# Altium integrated library IntegratedCircuits.IntLib: 9 symbols
Pins are listed as number, name and electrical type; pins without a type are passive.

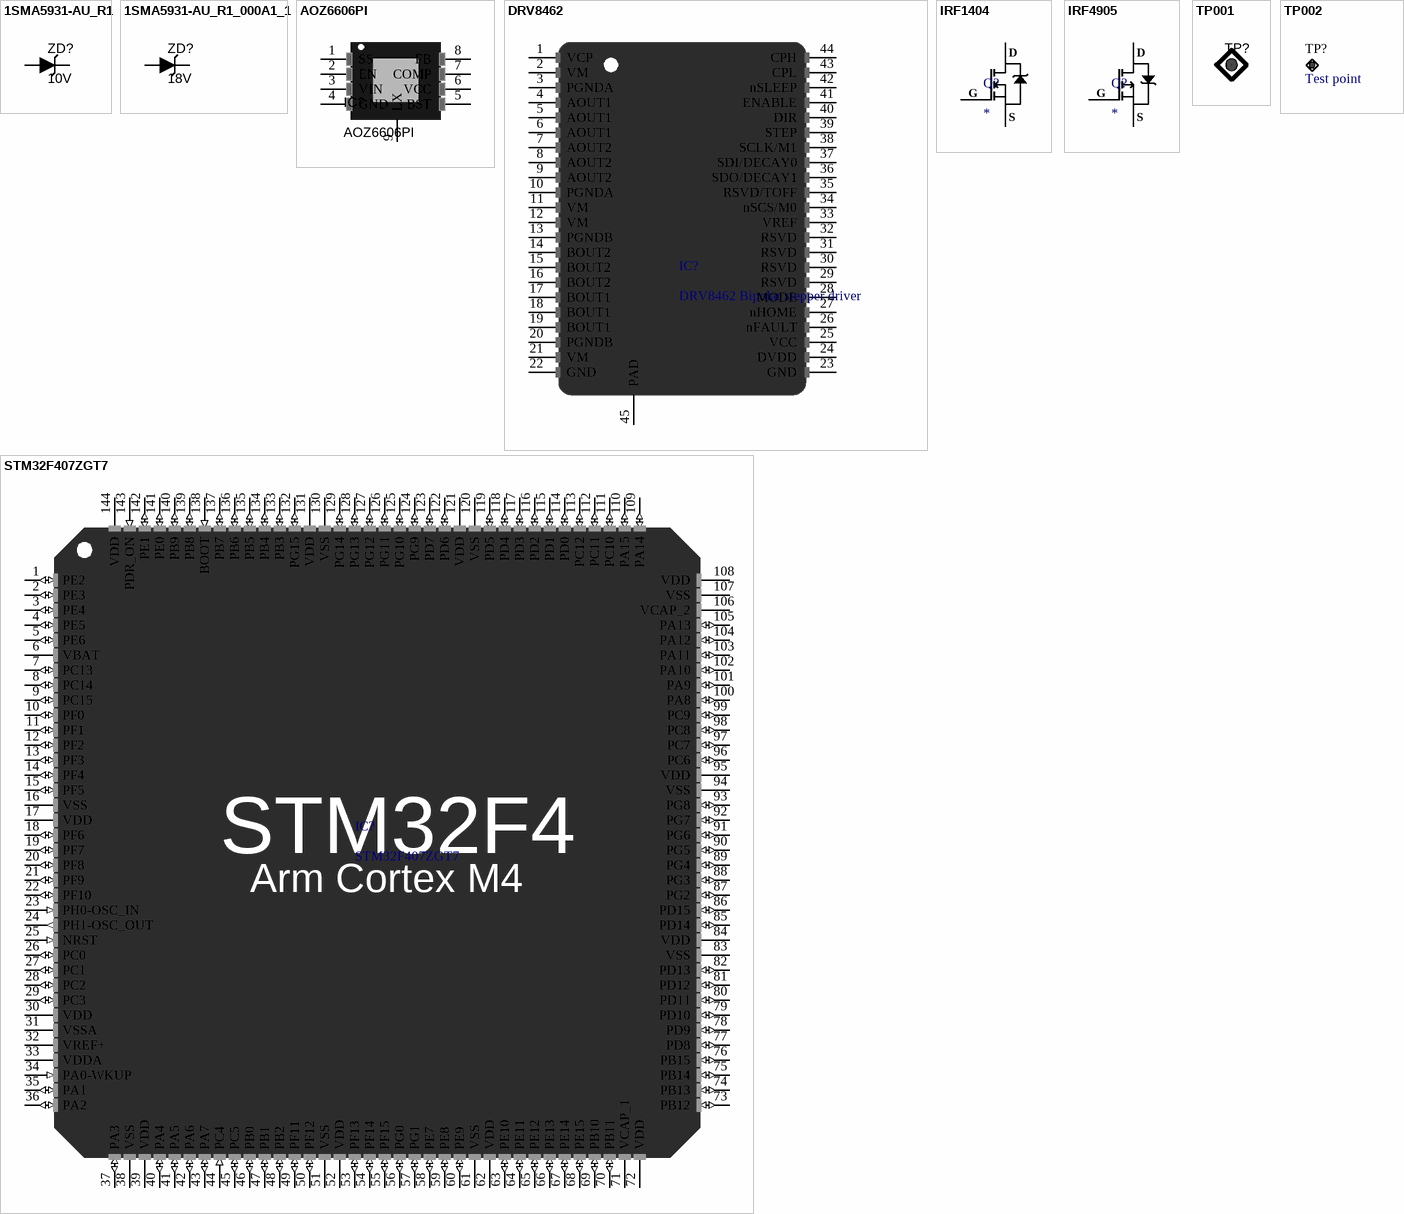
[diagram p0: symbols 1SMA5931-AU_R1 to TP002]

## 1SMA5931-AU_R1
designator ZD?, comment 10V
Zener Diode 10 V 5 W ±5% Surface Mount SMC (DO-214AB); Value: 10V; ComponentLink1Description: digikey; ComponentLink1URL: https://www.digikey.com/en/products/detail/panjit-international-inc/1SMC5347-AU-R1-000A1/15799564
footprint DIO_SMA (Molded Diode, 2-Leads, Body 4.30x2.70mm, IPC Medium Density)
pins: 1 Cathode, 2 Anode

## 1SMA5931-AU_R1_000A1_1
designator ZD?, comment 18V
Zener Diode 18 V 1.5 W ±5% Surface Mount SMA (DO-214AC); Value: 18V; ComponentLink1Description: digikey; ComponentLink1URL: https://www.digikey.com/en/products/detail/panjit-international-inc/1SMA5931-AU-R1-000A1/15799815
footprint DIO_SMA (Molded Diode, 2-Leads, Body 4.30x2.70mm, IPC Medium Density)
pins: 1 Cathode, 2 Anode

## AOZ6606PI
designator IC?
partName: AOZ6606PI
footprint SOP127P600X170_HS-9N (SOP, 8-Leads, Body 4.90x3.90mm, Pitch 1.27mm, Thermal Pad 3.60x2.61mm, IPC Medium Density)
pins: 1 SS, 2 EN, 3 VIN, 4 GND, 5 BST, 6 VCC, 7 COMP, 8 FB, 9 LX

## DRV8462
designator IC?, comment DRV8462 Bipolar stepper driver
65-V, 10-A, DUAL H-BRIDGE STEPPER DRIVER; Digikey part number: 296-DRV8462DDWRTR-ND; ComponentLink1Description: DigiKey; ComponentLink1URL: https://www.digikey.com/en/products/detail/texas-instruments/DRV8462DDWR/17395001?s=N4IgTCBcDaICYCcBuAOALANggXQL5A; Mouser part number: 595-DRV8462DDWR; ComponentLink2Description: Mouser; ComponentLink2URL: https://eu.mouser.com/ProductDetail/Texas-Instruments/DRV8462DDWR?qs=rQFj71Wb1eVexvYNsDfnvA%3D%3D; ComponentLink3Description: datasheet; ComponentLink3URL: https://www.ti.com/lit/ds/symlink/drv8462.pdf
footprint TSOP64P810X120_HS-45N (TSOP, 44-Leads, Body 14.00x6.10mm, Pitch 0.64mm, Thermal Pad 8.00x3.80mm, IPC Medium Density)
pins: 1 VCP, 2 VM, 3 PGNDA, 4 AOUT1, 5 AOUT1, 6 AOUT1, 7 AOUT2, 8 AOUT2, 9 AOUT2, 10 PGNDA, 11 VM, 12 VM, 13 PGNDB, 14 BOUT2, 15 BOUT2, 16 BOUT2, 17 BOUT1, 18 BOUT1, 19 BOUT1, 20 PGNDB, 21 VM, 22 GND, 23 GND, 24 DVDD, 25 VCC, 26 nFAULT, 27 nHOME, 28 MODE, 29 RSVD, 30 RSVD, 31 RSVD, 32 RSVD, 33 VREF, 34 nSCS/M0, 35 RSVD/TOFF, 36 SDO/DECAY1, 37 SDI/DECAY0, 38 SCLK/M1, 39 STEP, 40 DIR, 41 ENABLE, 42 nSLEEP, 43 CPL, 44 CPH, 45 PAD

## IRF1404
designator Q?
Manufacturer: International Rectifier; Manufacturer Part Number: IRF1404ZSPBF; Continuous Drain Current (ID): 75A; Current Rating: 49A; Drain to Source Breakdown Voltage: 40V; Drain to Source Resistance: 4mR; Drain-source On Resistance-Max: 3.7MR; Dual Supply Voltage: 55V; Element Configuration: Single; Fall Time: 58ns; Gate to Source Voltage (Vgs): 20V; Input Capacitance: 4.34nF; Max Power Dissipation: 200W; Nominal Vgs: 4V; Number of Elements: 1; Polarity: N-CHANNEL; Power Dissipation: 220W; Recovery Time: 42ns; Rise Time: 110ns; Turn-Off Delay Time: 36ns; Turn-On Delay Time: 18ns; Case/Package: D2PAK; Category: MOSFETs; Drain to Source Voltage (Vdss): 40V; Height: 4.83mm; Lead Free: Lead Free; Length: 10.67mm; Max Operating Temperature: 175°C; Min Operating Temperature: -55°C; Mount: Surface Mount; Number of Pins: 3; Package Quantity: 50; Packaging: Rail/Tube; Radiation Hardening: No; Rds On Max: 3.7mR; REACH SVHC: No SVHC; RoHS Compliant: Yes; Series: HEXFET®; Termination: SMD/SMT; Voltage Rating (DC): 55V; Width: 9.65mm; On-State Resistance: 3.7MR; Threshold Voltage: 4V
footprint DPAK254P1524X483-3N (D2-PAK, 3-Pads, Body 7.93x8.70mm (max), IPC Medium Density)
pins: 1 G, 3, 4
text: D; S

## IRF4905
designator Q?
Manufacturer: International Rectifier; Manufacturer Part Number: IRF1404ZSPBF; Continuous Drain Current (ID): 75A; Current Rating: 49A; Drain to Source Breakdown Voltage: 40V; Drain to Source Resistance: 4mR; Drain-source On Resistance-Max: 3.7MR; Dual Supply Voltage: 55V; Element Configuration: Single; Fall Time: 58ns; Gate to Source Voltage (Vgs): 20V; Input Capacitance: 4.34nF; Max Power Dissipation: 200W; Nominal Vgs: 4V; Number of Elements: 1; Polarity: N-CHANNEL; Power Dissipation: 220W; Recovery Time: 42ns; Rise Time: 110ns; Turn-Off Delay Time: 36ns; Turn-On Delay Time: 18ns; Case/Package: D2PAK; Category: MOSFETs; Drain to Source Voltage (Vdss): 40V; Height: 4.83mm; Lead Free: Lead Free; Length: 10.67mm; Max Operating Temperature: 175°C; Min Operating Temperature: -55°C; Mount: Surface Mount; Number of Pins: 3; Package Quantity: 50; Packaging: Rail/Tube; Radiation Hardening: No; Rds On Max: 3.7mR; REACH SVHC: No SVHC; RoHS Compliant: Yes; Series: HEXFET®; Termination: SMD/SMT; Voltage Rating (DC): 55V; Width: 9.65mm; On-State Resistance: 3.7MR; Threshold Voltage: 4V
footprint DPAK254P1524X483-3N (D2-PAK, 3-Pads, Body 7.93x8.70mm (max), IPC Medium Density)
pins: 1 G, 3, 4
text: D; S

## STM32F407ZGT7
designator IC?
ARM® Cortex®-M4 STM32F4 Microcontroller IC 32-Bit Single-Core 168MHz 1MB (1M x 8) FLASH 144-LQFP (20x20); Supplier 2: DigiKey; Supplier 1: Mouser; Supplier Part Number 1: 511-STM32F407ZGT7; Supplier 2 Part Number: 497-17439-ND; ComponentLink1Description: Supplier 2 Link; ComponentLink1URL: https://www.digikey.com/en/products/detail/stmicroelectronics/STM32F407ZGT7/4357413?s=N4IgTCBcDaIMoBUCyBmMAxALABgOwC0BxBXEAXQF8g; ComponentLink2Description: Supplier 1 Link; ComponentLink2URL: https://eu.mouser.com/ProductDetail/STMicroelectronics/STM32F407ZGT7?qs=%2F%2FVjtefuLz5lDAduqBtUGQ%3D%3D
footprint TSQFP50P2260X2260X160-144N (TSQFP, 144-Leads, Body 17.85x17.85mm, Pitch 0.50mm, IPC Medium Density)
pins: 1 PE2 (io), 2 PE3 (io), 3 PE4 (io), 4 PE5 (io), 5 PE6 (io), 6 VBAT (power), 7 PC13 (io), 8 PC14 (io), 9 PC15 (io), 10 PF0 (io), 11 PF1 (io), 12 PF2 (io), 13 PF3 (io), 14 PF4 (io), 15 PF5 (io), 16 VSS (power), 17 VDD (power), 18 PF6 (io), 19 PF7 (io), 20 PF8 (io), 21 PF9 (io), 22 PF10 (io), 23 PH0-OSC_IN (in), 24 PH1-OSC_OUT (out), 25 NRST (in), 26 PC0 (io), 27 PC1 (io), 28 PC2 (io), 29 PC3 (io), 30 VDD (power), 31 VSSA (power) "analog ground", 32 VREF+ (power), 33 VDDA (power), 34 PA0-WKUP (in), 35 PA1 (io), 36 PA2 (io), 37 PA3 (io), 38 VSS (power), 39 VDD (power), 40 PA4 (io), 41 PA5 (io), 42 PA6 (io), 43 PA7 (io), 44 PC4 (in), 45 PC5 (io), 46 PB0 (io), 47 PB1 (io), 48 PB2 (io), 49 PF11 (io), 50 PF12 (io), 51 VSS (power), 52 VDD (power), 53 PF13 (io), 54 PF14 (io), 55 PF15 (io), 56 PG0 (io), 57 PG1 (io), 58 PE7 (io), 59 PE8 (io), 60 PE9 (io), 61 VSS (power), 62 VDD (power), 63 PE10 (io), 64 PE11 (io), 65 PE12 (io), 66 PE13 (io), 67 PE14 (io), 68 PE15 (io), 69 PB10 (io), 70 PB11 (io), 71 VCAP_1 (power), 72 VDD (power), 73 PB12 (io), 74 PB13 (io), 75 PB14 (io), 76 PB15 (io), 77 PD8 (io), 78 PD9 (io), 79 PD10 (io), 80 PD11 (io), 81 PD12 (io), 82 PD13 (io), 83 VSS (power), 84 VDD (power), 85 PD14 (io), 86 PD15 (io), 87 PG2 (io), 88 PG3 (io), 89 PG4 (io), 90 PG5 (io), 91 PG6 (io), 92 PG7 (io), 93 PG8 (io), 94 VSS (power), 95 VDD (power), 96 PC6 (io), 97 PC7 (io), 98 PC8 (io), 99 PC9 (io), 100 PA8 (io), 101 PA9 (io), 102 PA10 (io), 103 PA11 (io), 104 PA12 (io), 105 PA13 (io), 106 VCAP_2 (power), 107 VSS (power), 108 VDD (power), 109 PA14 (io), 110 PA15 (io), 111 PC10 (io), 112 PC11 (io), 113 PC12 (io), 114 PD0 (io), 115 PD1 (io), 116 PD2 (io), 117 PD3 (io), 118 PD4 (io), 119 PD5 (io), 120 VSS (power), 121 VDD (power), 122 PD6 (io), 123 PD7 (io), 124 PG9 (io), 125 PG10 (io), 126 PG11 (io), 127 PG12 (io), 128 PG13 (io), 129 PG14 (io), 130 VSS (power), 131 VDD (power), 132 PG15 (io), 133 PB3 (io), 134 PB4 (io), 135 PB5 (io), 136 PB6 (io), 137 PB7 (io), 138 BOOT (in), 139 PB8 (io), 140 PB9 (io), 141 PE0 (io), 142 PE1 (io), 143 PDR_ON (in), 144 VDD (power)
text: STM32F4; Arm Cortex M4; SPI / INTERFACE

## TP001
designator TP?, comment TestPoint  (value not drawn)
footprint TestPoint (1mm)
pins: 1 "Test Point"

## TP002
designator TP?, comment Test point
Test point 1mm
footprint TestPoint (1mm)
pins: 1